# Altium footprint library Connectors.PcbLib: 38 footprints (part 2 of 3)
Each footprint in its own frame and in the unit in brackets; x right, y up, seen from the top. Pads: shape width x height; smd on the part's side, far side on the other; paste and mask are expansions set on the pad; w line width, h text height; cw(c..) or ccw(c..) is an arc to the next point about the centre after c.
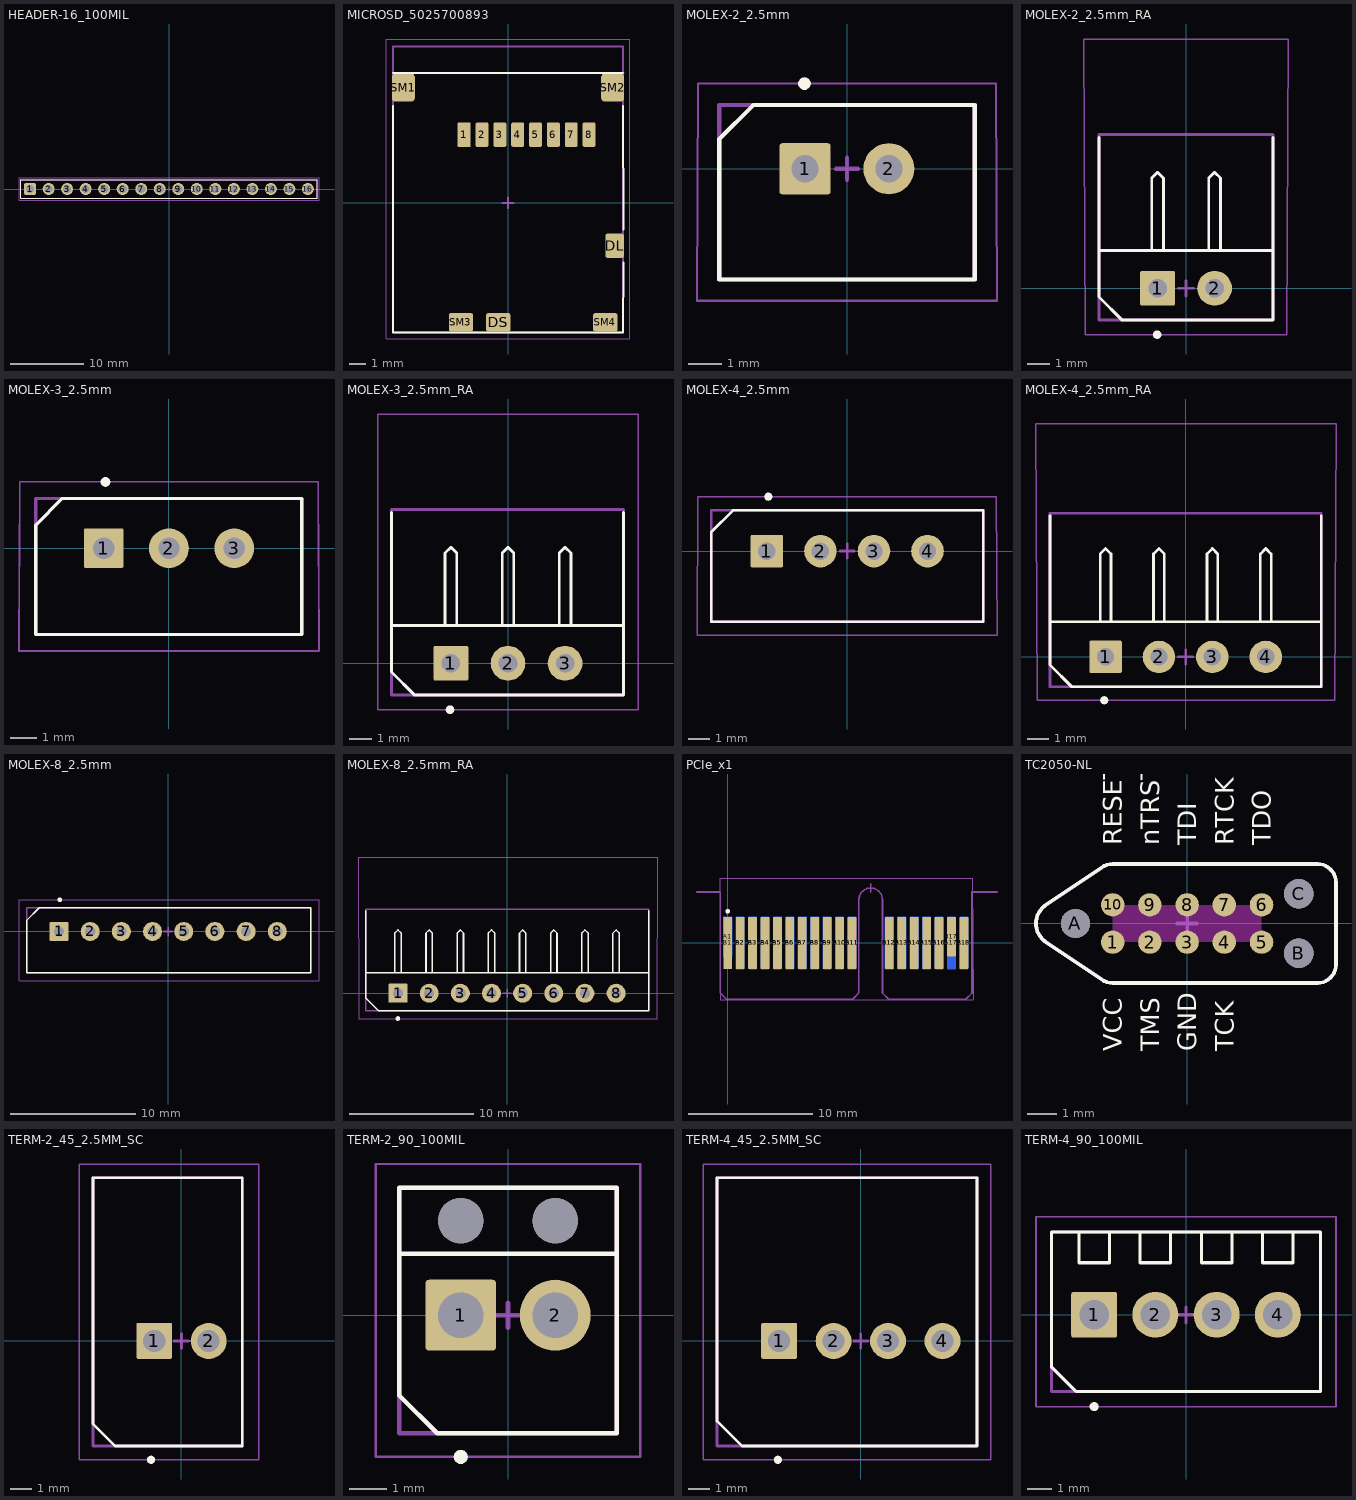
[diagram p1: the footprints below, top view; thin cyan lines are the x and y axes]

## HEADER-16_100MIL [mil]
height 425
pads (16):
  rrect33% 65x65 hole 44: 1(-750,0)
  round 65 hole 44: 2(-650,0) 3(-550,0) 4(-450,0) 5(-350,0) 6(-250,0) 7(-150,0) 8(-50,0) 9(50,0) 10(150,0) 11(250,0) 12(350,0) 13(450,0) 14(550,0) 15(650,0) 16(750,0)
Top Overlay:
  lines w5: -800,-50 -800,50 800,50 800,-50 -800,-50
Top Designator:
  text "'.Comment'" at -85.76,-46.66 h20
  text ".Designator" at -100.75,-6.66 h20
Top Assembly (Mech13):
  circle w10: c-750,0 r2.5
  lines w5: -13,0 13,0 ; 0,-13 0,13 ; -800,-50 -800,50 800,50 800,-50 -800,-50
Top Courtyard (Mech15):
  lines w2.5: -810,-60 810,-60 810,60 -810,60 -810,-60
3D body "68000-116HLF--3DModel-STEP-56544.STEP": height 330.81, standoff -94.38, extent -800,-47.44 800,47.44

## MICROSD_5025700893 [mm]
pads (14):
  rrect10% 0.8x1.5 smd: 1(-2.7,4.2)
  rrect25% 0.8x1.5 smd: 2(-1.6,4.2) 3(-0.5,4.2) 4(0.6,4.2) 5(1.7,4.2) 6(2.8,4.2) 7(3.9,4.2) 8(5,4.2)
  rrect25% 1.15x1.5 smd: DL(6.575,-2.65)
  rrect25% 1.5x1.15 smd: DS(-0.6,-7.375) SM3(-2.9,-7.375) SM4(6,-7.375)
  rrect25% 1.4x1.7 smd: SM1(-6.45,7.1) SM2(6.45,7.1)
Top Overlay:
  lines w0.127: -7.1,5.957 -7.1,-8 7.1,-8.001 ; -7.1,8 7.1,8 ; 7.1,-8 7.112,-3.683 ; 7.1,5.957 7.112,-1.651
Top Designator:
  text ".Designator" at -2.539,-1.693 h0.51
  text "'.Comment'" at -2.158,-2.709 h0.51
Top Assembly (Mech13):
  circle w0.254: c-2.7,4.2 r0.064
  lines w0.127: -7.088,8.001 7.112,8.001 ; -0.33,0 0.33,0 ; 0,-0.33 0,0.33 ; -7.1,-7.989 7.1,-7.989 7.1,9.65 -7.1,9.65 -7.1,-7.989
Top Courtyard (Mech15):
  lines w0.064: -7.5,-8.4 7.5,-8.4 7.5,10.1 -7.5,10.1 -7.5,-8.4
3D body "5025700893.stp": height 1.81, standoff 0.01, extent -6.858,-7.623 6.942,7.877

## MOLEX-2_2.5mm [mil] "2.5mm MOLEX 2-pins Connector, based on 0022035025"
height 230
pads (3):
  rrect10% 60x60 hole 32: 1(-49.21,0)
  round 60 hole 32: 2(49.21,0)
  round 15 on Top Overlay: ""(-50,100)
Top Overlay:
  lines w5: -150,-130 150,-130 150,75 -110,75 -150,35 -150,-130
Top Designator:
  text "'.Comment'" at -84.97,-106.66 h20
  text ".Designator" at -99.97,-66.66 h20
Top Assembly (Mech13):
  circle w10: c-49.21,0 r2.5
  lines w5: -13,0 13,0 ; 0,-13 0,13 ; -150,-130 -150,75 150,75 150,-130 -150,-130
Top Courtyard (Mech15):
  lines w2.5: -176.16,-155 -174.87,100 174.87,100 176.16,-155 -176.16,-155
3D body "022035025.stp": height 232.78, standoff -137.3, extent -145.67,-122.24 145.67,70.67

## MOLEX-2_2.5mm_RA [mil] "2.5mm MOLEX 2-pins Right-Angle Connector, based on 0022057025"
height 195
pads (3):
  rrect10% 60x60 hole 32: 1(-49.21,0)
  round 60 hole 32: 2(49.21,0)
  round 15 on Top Overlay: ""(-50,-80)
Top Overlay:
  lines w5: -150,65 150,65 ; -150,260 -150,-15 -110,-55 150,-55 150,260 ; -59.21,65 -59.21,190 -49.21,200 -39.21,190 -39.21,65 ; 39.21,65 39.21,190 49.21,200 59.21,190 59.21,65
Top Designator:
  text "'.Comment'" at -84.97,193.34 h20
  text ".Designator" at -99.97,233.34 h20
Top Assembly (Mech13):
  circle w10: c-49.21,0 r2.5
  lines w5: -13,0 13,0 ; 0,-13 0,13 ; -150,-55 -150,265 150,265 150,-55 -150,-55
Top Courtyard (Mech15):
  lines w2.5: -176.09,430 -173.51,-80 173.28,-80 175.86,430 -176.09,430
3D body "022057025.stp": height 193.41, standoff -137.3, extent -145.67,-49.88 145.67,261.14

## MOLEX-3_2.5mm [mil] "2.5mm MOLEX 3-pins Connector, based on 0022035035"
height 230
pads (4):
  rrect10% 60x60 hole 32: 1(-98.43,0)
  round 60 hole 32: 2(0,0) 3(98.43,0)
  round 15 on Top Overlay: ""(-95.79,100)
Top Overlay:
  lines w5: -200.79,-130 -200.79,35 -160.79,75 200,75 200,-130 -200.79,-130
Top Designator:
  text ".Designator" at -100.75,-66.66 h20
  text "'.Comment'" at -85.76,-106.66 h20
Top Assembly (Mech13):
  circle w10: c-98.43,0 r2.5
  lines w5: -13,0 13,0 ; 0,-13 0,13 ; -200.79,-130 -200.79,75 200,75 200,-130 -200.79,-130
Top Courtyard (Mech15):
  lines w2.5: -226.06,-155 226.14,-155 224.85,100 -224.77,100 -226.06,-155
3D body "022035035.stp": height 232.78, standoff -137.3, extent -194.65,-123.31 195.12,69.61

## MOLEX-3_2.5mm_RA [mil] "2.5mm MOLEX 3-pins Right-Angle Connector, based on 0022057035"
height 195
pads (4):
  rrect10% 60x60 hole 32: 1(-98.43,0)
  round 60 hole 32: 2(0,0) 3(98.43,0)
  round 15 on Top Overlay: ""(-100,-80)
Top Overlay:
  lines w5: -200.79,65 199.21,65 ; -200.79,260 -200.79,-15 -160.79,-55 199.21,-55 199.21,260 ; -108.43,65 -108.43,190 -98.43,200 -88.43,190 -88.43,65 ; -10,65 -10,190 0,200 10,190 10,65 ; 88.43,65 88.43,190 98.43,200 108.43,190 108.43,65
Top Designator:
  text ".Designator" at -100.75,238.34 h20
  text "'.Comment'" at -85.76,198.34 h20
Top Assembly (Mech13):
  circle w10: c-98.43,0 r2.5
  lines w5: -13,0 13,0 ; 0,-13 0,13 ; -200.79,-55 199.21,-55 199.21,265 -200.79,265 -200.79,-55
Top Courtyard (Mech15):
  lines w2.5: -225,-80 225,-80 225,430 -225,430 -225,-80
3D body "022057035.stp": height 193.41, standoff -137.3, extent -195.67,-50 194.09,261.02

## MOLEX-4_2.5mm [mil] "2.5mm MOLEX 4-pins Connector, based on 0022035045"
height 230
pads (5):
  rrect10% 60x60 hole 32: 1(-147.64,0)
  round 60 hole 32: 2(-49.21,0) 3(49.21,0) 4(147.64,0)
  round 15 on Top Overlay: ""(-145,100)
Top Overlay:
  lines w5: -250,-130 250,-130 250,75 -210,75 -250,35 -250,-130
Top Designator:
  text "'.Comment'" at -84.97,-106.66 h20
  text ".Designator" at -99.97,-66.66 h20
Top Assembly (Mech13):
  circle w10: c-147.64,0 r2.5
  lines w5: -13,0 13,0 ; 0,-13 0,13 ; -250,-130 250,-130 250,75 -250,75 -250,-130
Top Courtyard (Mech15):
  lines w2.5: -276.14,-155 -274.85,100 274.12,100 275.4,-155 -276.14,-155
3D body "022035045.stp": height 232.78, standoff -137.3, extent -245.09,-123.24 243.09,69.67

## MOLEX-4_2.5mm_RA [mil] "2.5mm MOLEX 4-pins Right-Angle Connector, based on 0022057045"
height 195
pads (5):
  rrect10% 60x60 hole 32: 1(-147.64,0)
  round 60 hole 32: 2(-49.21,0) 3(49.21,0) 4(147.64,0)
  round 15 on Top Overlay: ""(-150,-80)
Top Overlay:
  lines w5: -250,65 250,65 ; -250,260 -250,-15 -210,-55 250,-55 250,260 ; -157.64,65 -157.64,190 -147.64,200 -137.64,190 -137.64,65 ; -59.21,65 -59.21,190 -49.21,200 -39.21,190 -39.21,65 ; 39.21,65 39.21,190 49.21,200 59.21,190 59.21,65 ; 137.64,65 137.64,190 147.64,200 157.64,190 157.64,65
Top Designator:
  text ".Designator" at -99.97,233.34 h20
  text "'.Comment'" at -84.97,193.34 h20
Top Assembly (Mech13):
  circle w10: c-147.64,0 r2.5
  lines w5: -13,0 13,0 ; 0,-13 0,13 ; -250,-55 250,-55 250,260 250,265 -250,265 -250,-55
Top Courtyard (Mech15):
  lines w2.5: -275.88,430 277.2,430 274.62,-80 -273.31,-80 -275.88,430
3D body "022057045.stp": height 193.41, standoff -137.3, extent -244.09,-49.88 244.09,261.14

## MOLEX-8_2.5mm [mil] "2.5mm MOLEX 8-pins Connector, based on 0022035085"
height 230
pads (9):
  rrect10% 60x60 hole 32: 1(-344.49,0)
  round 60 hole 32: 2(-246.06,0) 3(-147.64,0) 4(-49.21,0) 5(49.21,0) 6(147.64,0) 7(246.06,0) 8(344.49,0)
  round 15 on Top Overlay: ""(-341.85,100)
Top Overlay:
  lines w5: -446.85,-130 -446.85,35 -406.85,75 450,75 450,-130 -446.85,-130
Top Designator:
  text ".Designator" at -101.82,-66.66 h20
  text "'.Comment'" at -86.82,-106.66 h20
Top Assembly (Mech13):
  circle w10: c-344.49,0 r2.5
  lines w5: -13,0 13,0 ; 0,-13 0,13 ; -446.85,-130 -446.85,75 450,75 450,-130 -446.85,-130
Top Courtyard (Mech15):
  lines w2.5: -470.78,-155 476.24,-155 474.95,100 -469.49,100 -470.78,-155
3D body "022035085.stp": height 232.78, standoff -137.3, extent -440,-121.46 441.89,71.46

## MOLEX-8_2.5mm_RA [mil] "2.5mm MOLEX 8-pins Right-Angle Connector, based on 0022057085"
height 195
pads (9):
  rrect10% 60x60 hole 32: 1(-344.49,0)
  round 60 hole 32: 2(-246.06,0) 3(-147.64,0) 4(-49.21,0) 5(49.21,0) 6(147.64,0) 7(246.06,0) 8(344.49,0)
  round 15 on Top Overlay: ""(-345,-80)
Top Overlay:
  lines w5: -446.85,65 448.15,65 ; -446.85,260 -446.85,-15 -406.85,-55 448.15,-55 448.15,260 ; -354.49,65 -354.49,190 -344.49,200 -334.49,190 -334.49,65 ; -256.06,65 -256.06,190 -246.06,200 -236.06,190 -236.06,65 ; -157.64,65 -157.64,190 -147.64,200 -137.64,190 -137.64,65 ; -59.21,65 -59.21,190 -49.21,200 -39.21,190 -39.21,65 ; 39.21,65 39.21,190 49.21,200 59.21,190 59.21,65 ; 137.64,65 137.64,190 147.64,200 157.64,190 157.64,65 ; 236.06,65 236.06,190 246.06,200 256.06,190 256.06,65 ; 334.49,65 334.49,190 344.49,200 354.49,190 354.49,65
Top Designator:
  text "'.Comment'" at -84.97,193.34 h20
  text ".Designator" at -99.97,233.34 h20
Top Assembly (Mech13):
  circle w10: c-344.49,0 r2.5
  lines w5: -13,0 13,0 ; 0,-13 0,13 ; -446.85,-55 -446.85,265 53.15,265 448.15,265 448.15,-55 -446.85,-55
Top Courtyard (Mech15):
  lines w2.5: -470.93,430 -468.36,-80 474.24,-80 476.82,430 -470.93,430
3D body "022057085.stp": height 193.41, standoff -137.3, extent -440.94,-49.21 440.94,261.81

## PCIe_x1 [mm] "https://tools.molex.com/pdm_docs/sd/877159006_sd.pdf"
pads (38):
  rrect10% 0.7x3.2 smd far side: A1(0,0.5)
  rrect25% 0.7x4.2 smd far side: A2(1,0) A3(2,0) A4(3,0) A5(4,0) A6(5,0) A7(6,0) A8(7,0) A9(8,0) A10(9,0) A11(10,0) A12(13,0) A13(14,0) A14(15,0) A15(16,0) A16(17,0) A17(18,0) A18(19,0)
  rrect10% 0.7x4.2 smd: B1(0,0)
  rrect25% 0.7x4.2 smd: B2(1,0) B3(2,0) B4(3,0) B5(4,0) B6(5,0) B7(6,0) B8(7,0) B9(8,0) B10(9,0) B11(10,0) B12(13,0) B13(14,0) B14(15,0) B15(16,0) B16(17,0) B18(19,0)
  rrect25% 0.7x3.2 smd: B17(18,0.5)
  round 0.381 on Top Overlay: ""(0,2.54)
  round 0.381 on Bottom Overlay: ""(0,2.54)
Board Outline:
  lines w0.127: -2.47,4.1 -0.6,4.1 -0.6,-4.035 -0.1,-4.535 10.05,-4.535 10.55,-4.035 10.55,3.465 cw(c11.5,3.465) 12.45,3.465 12.45,-4.035 12.95,-4.535 19.15,-4.535 19.65,-4.035 19.65,4.1 21.66,4.1
Top Designator:
  text ".Designator" at 2.357,-2.927 h0.51
  text "'.Comment'" at 2.738,-3.943 h0.51
Top Assembly (Mech13):
  circle w0.254: c0,0 r0.064
  lines w0.127: 11.177,4.415 11.838,4.415 ; 11.508,4.085 11.508,4.745
Top Courtyard (Mech15):
  lines w0.064: -0.639,5.207 19.681,5.207 19.731,-4.572 -0.589,-4.572 -0.639,5.207

## TC2050-NL [mm] "Target for Tag Copnnect TC2050-xxx-NL"
pads (13):
  round 0.8 smd paste-2539.97: 1(-2.54,-0.635) 2(-1.27,-0.635) 3(0,-0.635) 4(1.27,-0.635) 5(2.54,-0.635) 6(2.54,0.635) 7(1.27,0.635) 8(0,0.635) 9(-1.27,0.635) 10(-2.54,0.635)
  round 1 hole 1 paste-2539.97 mask-25.375: A(-3.81,0) B(3.81,-1.016) C(3.81,1.016)
Top Overlay:
  lines w0.127: -4.851,-0.61 cw(c-4.394,0) -4.851,0.61 ; -4.826,-0.635 -2.921,-1.905 ccw(c-2.54,-1.397) -2.54,-2.032 4.445,-2.032 ccw(c4.445,-1.397) 5.08,-1.397 5.08,1.397 ccw(c4.445,1.397) 4.445,2.032 -2.54,2.032 ccw(c-2.54,1.397) -2.921,1.905 -4.826,0.635
  text "TDO" at 2.857,2.667 h0.64
  text "RTCK" at 1.587,2.667 h0.64
  text "TDI" at 0.317,2.667 h0.64
  text "nTRST" at -0.953,2.667 h0.64
  text "RESET" at -2.223,2.667 h0.64
  text "TCK" at 1.587,-4.36 h0.64
  text "GND" at 0.317,-4.36 h0.64
  text "TMS" at -0.953,-4.36 h0.64
  text "VCC" at -2.223,-4.36 h0.64
Keep-Out Layer:
  rectangle: -2.54,-0.635 2.54,0.635
Top Designator:
  text "'.Comment'" at -2.158,-0.677 h0.51
  text ".Designator" at -2.539,0.339 h0.51
Top Assembly (Mech13):
  circle w0.254: c-2.54,-0.635 r0.064
  lines w0.127: -4.851,-0.61 cw(c-4.394,0) -4.851,0.61 ; -4.826,-0.635 -2.921,-1.905 ccw(c-2.54,-1.397) -2.54,-2.032 4.445,-2.032 ccw(c4.445,-1.397) 5.08,-1.397 5.08,1.397 ccw(c4.445,1.397) 4.445,2.032 -2.54,2.032 ccw(c-2.54,1.397) -2.921,1.905 -4.826,0.635 ; -0.33,0 0.33,0 ; 0,-0.33 0,0.33

## TERM-2_45_2.5MM_SC [mil] "Spring-Cage 2 pos Terminal Block 45deg entry 2.5mm pitch, based on 1989748"
height 515
pads (3):
  rrect10% 65x65 hole 40: 1(-49.21,0)
  round 65 hole 40: 2(49.21,0)
  round 15 on Top Overlay: ""(-55,-215)
Top Overlay:
  lines w5: -160,-150 -120,-190 110,-190 110,295 -160,295 -160,-150
Top Designator:
  text "'.Comment'" at -84.97,88.34 h20
  text ".Designator" at -99.97,128.34 h20
Top Assembly (Mech13):
  circle w10: c-49.21,0 r2.5
  lines w5: -13,0 13,0 ; 0,-13 0,13 ; -160,-190 110,-190 110,295 -160,295 -160,-190
Top Courtyard (Mech15):
  lines w2.5: -185,-215 -185,320 140,320 140,-215 -185,-215
3D body "pxc_1989748_02_PTSA-0-5-2-2-5-F_3D.stp": height 516.25, standoff -137.3, extent -152.95,-185 102.95,287.44

## TERM-2_90_100MIL [mil] "Screw-in 2 pos Terminal Block 90deg 100mil pitch, based on 1725656"
height 335
pads (5):
  rrect10% 75x75 hole 48: 1(-50,0)
  round 75 hole 48: 2(50,0)
  round 15 on Top Overlay: ""(-50,-150)
  round 48 hole 48 unplated: ""(-50,100) ""(50,100)
Top Overlay:
  lines w5: -115,65 115,65 ; -115,-85 -75,-125 115,-125 115,135 -115,135 -115,-85
Top Designator:
  text "'.Comment'" at -84.97,-111.66 h20
  text ".Designator" at -99.97,-71.66 h20
Top Assembly (Mech13):
  circle w10: c-50,0 r2.5
  lines w5: -13,0 13,0 ; 0,-13 0,13 ; -115,-125 -115,135 115,135 115,-125 -115,-125
Top Courtyard (Mech15):
  lines w2.5: -140,-150 -140,160 140,160 140,-150 -140,-150
3D body "pxc_1725656_05_MPT-0-5-2-2-54_3D.stp": height 335.15, standoff -137.3, extent -109.06,-121.09 109.06,123

## TERM-4_45_2.5MM_SC [mil] "Spring-Cage 4 pos Terminal Block 45deg entry 2.5mm pitch, based on 1989764"
height 515
pads (5):
  rrect10% 65x65 hole 40: 1(-147.64,0)
  round 65 hole 40: 2(-49.21,0) 3(49.21,0) 4(147.64,0)
  round 15 on Top Overlay: ""(-150,-215)
Top Overlay:
  lines w5: -260,-145 -260,295 210,295 210,-190 -215,-190 -260,-145
Top Designator:
  text ".Designator" at -99.97,128.34 h20
  text "'.Comment'" at -84.97,88.34 h20
Top Assembly (Mech13):
  circle w10: c-147.64,0 r2.5
  lines w5: -13,0 13,0 ; 0,-13 0,13 ; -260,-190 -260,295 210,295 210,-190 -260,-190
Top Courtyard (Mech15):
  lines w2.5: -285,-215 -285,320 235,320 235,-215 -285,-215
3D body "pxc_1989764_02_PTSA-0-5-4-2-5-F_3D.stp": height 516.25, standoff -137.3, extent -250,-185 202.76,287.44

## TERM-4_90_100MIL [mil] "Screw-in 4 pos Terminal Block 90deg 100mil pitch, based on 1725672"
height 335
pads (5):
  rrect10% 75x75 hole 48: 1(-150,0)
  round 75 hole 48: 2(-50,0) 3(50,0) 4(150,0)
  round 15 on Top Overlay: ""(-150,-150)
Top Overlay:
  lines w5: -175,135 -175,85 -125,85 -125,135 ; -75,135 -75,85 -25,85 -25,135 ; 25,135 25,85 75,85 75,135 ; 125,135 125,85 175,85 175,135 ; -220,-85 -180,-125 220,-125 220,135 -220,135 -220,-85
Top Designator:
  text "'.Comment'" at -84.97,-111.66 h20
  text ".Designator" at -99.97,-71.66 h20
Top Assembly (Mech13):
  circle w10: c-150,0 r2.5
  lines w5: -13,0 13,0 ; 0,-13 0,13 ; -220,-125 -220,135 220,135 220,-125 -220,-125
Top Courtyard (Mech15):
  lines w2.5: -245,-150 -245,160 245,160 245,-150 -245,-150
3D body "pxc_1725672_05_MPT-0-5-4-2-54_3D.stp": height 335.15, standoff -137.3, extent -209.06,-119.09 209.06,125